# EAGLE library part TPS563200 (library jesse_laird)
TPS56x200 4.5 V to 17 V Input, 2A/3A Synchronous Step-Down Voltage Regulator
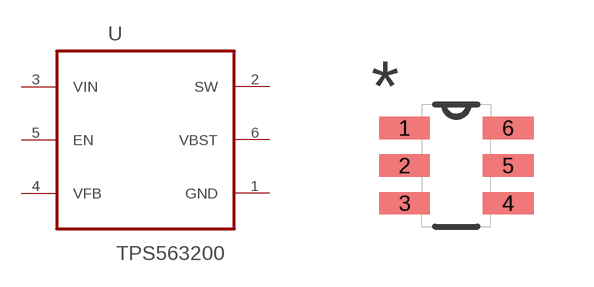
[diagram p0: symbol with the pads of SOT_6; footprint SOT_6]

Designator prefix -

## TPS563200  [SOT_6]
1  GND  pwr
2  SW  in
3  VIN  pwr
4  VFB  in
5  EN  in
6  VBST  pas

## Footprint SOT_6 (pad centres in mm)
smd 1.27 x 0.559: 1 -1.295,0.94; 2 -1.295,0; 3 -1.295,-0.94; 4 1.295,-0.94; 5 1.295,0; 6 1.295,0.94